# EAGLE library part MA13-2 (library con-lstb)
PIN HEADER
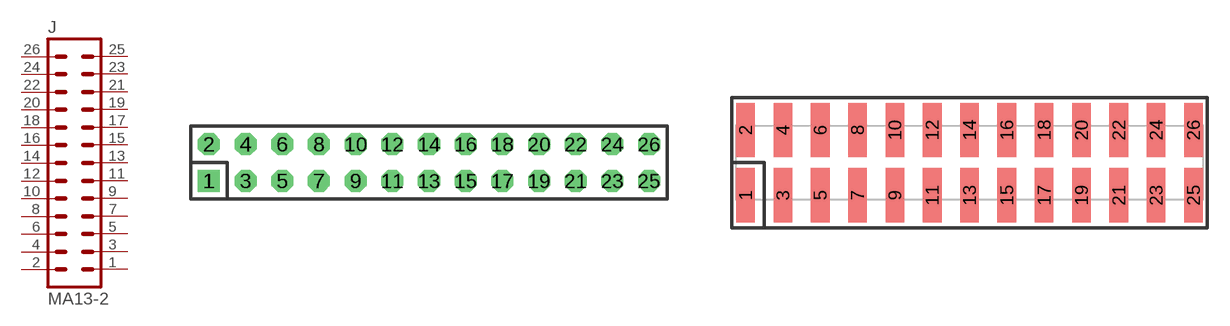
[diagram p4: symbol with the pads of MA13-2; footprints MA13-2, SMD-MA13-2]

Designator prefix J

## MA13-2  [MA13-2]
1  1  pas
2  2  pas
3  3  pas
4  4  pas
5  5  pas
6  6  pas
7  7  pas
8  8  pas
9  9  pas
10  10  pas
11  11  pas
12  12  pas
13  13  pas
14  14  pas
15  15  pas
16  16  pas
17  17  pas
18  18  pas
19  19  pas
20  20  pas
21  21  pas
22  22  pas
23  23  pas
24  24  pas
25  25  pas
26  26  pas

## MA13-2SMD  [SMD-MA13-2]
Pads as for MA13-2

## Footprint MA13-2 (pad centres in mm)
PIN HEADER
drill 1.016 square: 1 -15.24,-1.27
drill 1.016 octagon: 2 -15.24,1.27; 3 -12.7,-1.27; 4 -12.7,1.27; 5 -10.16,-1.27; 6 -10.16,1.27; 7 -7.62,-1.27; 8 -7.62,1.27; 9 -5.08,-1.27; 10 -5.08,1.27; 11 -2.54,-1.27; 12 -2.54,1.27; 13 0,-1.27; 14 0,1.27; 15 2.54,-1.27; 16 2.54,1.27; 17 5.08,-1.27; 18 5.08,1.27; 19 7.62,-1.27; 20 7.62,1.27; 21 10.16,-1.27; 22 10.16,1.27; 23 12.7,-1.27; 24 12.7,1.27; 25 15.24,-1.27; 26 15.24,1.27

## Footprint SMD-MA13-2 (pad centres in mm)
SMD Dual Row, Vertical - 0.1" Sullins, G XCXXDABN-M30 Series
smd 1.27 x 3.68: 1 -15.24,-2.223; 2 -15.24,2.223; 3 -12.7,-2.223; 4 -12.7,2.223; 5 -10.16,-2.223; 6 -10.16,2.223; 7 -7.62,-2.223; 8 -7.62,2.223; 9 -5.08,-2.223; 10 -5.08,2.223; 11 -2.54,-2.223; 12 -2.54,2.223; 13 0,-2.223; 14 0,2.223; 15 2.54,-2.223; 16 2.54,2.223; 17 5.08,-2.223; 18 5.08,2.223; 19 7.62,-2.223; 20 7.62,2.223; 21 10.16,-2.223; 22 10.16,2.223; 23 12.7,-2.223; 24 12.7,2.223; 25 15.24,-2.223; 26 15.24,2.223